# Altium footprint library CTRL Freaks Components.PcbLib: 13 footprints
Each footprint in its own frame and in the unit in brackets; x right, y up, seen from the top. Pads: shape width x height; smd on the part's side, far side on the other; paste and mask are expansions set on the pad; w line width, h text height; cw(c..) or ccw(c..) is an arc to the next point about the centre after c.
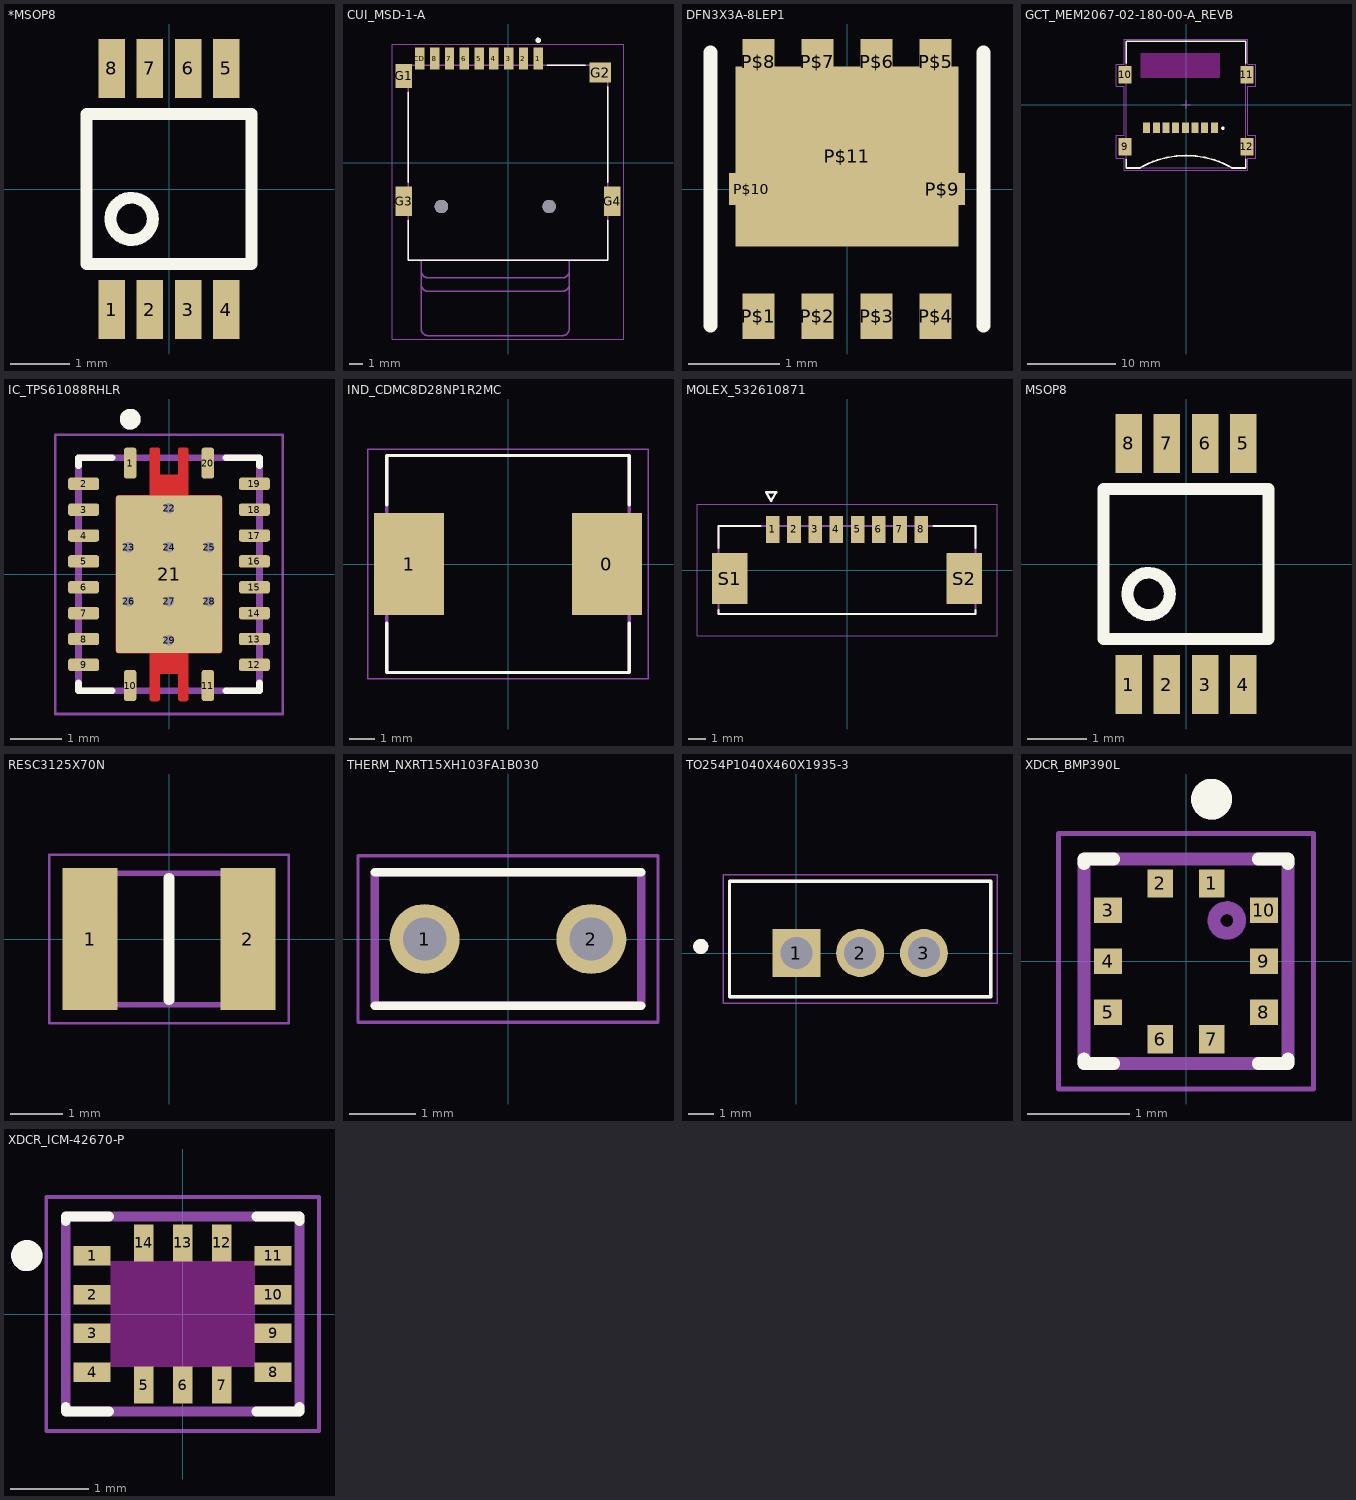
[diagram p0: the footprints below, top view; thin cyan lines are the x and y axes]

## *MSOP8 [mm]
pads (8):
  rect 0.45x1 smd: 1(-0.975,-2.05) 2(-0.325,-2.05) 3(0.325,-2.05) 4(0.975,-2.05) 5(0.975,2.05) 6(0.325,2.05) 7(-0.325,2.05) 8(-0.975,2.05)
Top Overlay:
  circle w0.203: c-0.635,-0.508 r0.359
  lines w0.203: -1.4,-1.273 -1.4,1.273 1.4,1.273 1.4,-1.273 -1.4,-1.273

## CUI_MSD-1-A [mm]
height 2
pads (15):
  rect 0.7x1.6 smd: 1(2.25,7.75) 2(1.15,7.75) 3(0.05,7.75) 4(-1.05,7.75) 5(-2.15,7.75) 6(-3.25,7.75) 7(-4.35,7.75) 8(-5.45,7.75) CD(-6.55,7.75)
  rect 1.2x1.8 smd: G1(-7.75,6.45)
  rect 1.6x1.5 smd: G2(6.85,6.7)
  rect 1.2x2.2 smd: G3(-7.75,-2.85) G4(7.75,-2.85)
  round 1 hole 1 unplated: ""(-4.95,-3.25) ""(3.05,-3.25)
Top Overlay:
  circle w0.2: c2.25,9.1 r0.1
  lines w0.127: -7.425,-4.27 -7.425,-7.25 7.425,-7.25 7.425,-4.27 ; -7.425,-1.43 -7.425,5.23 ; 2.92,7.25 5.73,7.25 ; 7.425,-1.43 7.425,5.63
Mechanical 13:
  circle w0.2: c2.25,9.1 r0.1
  lines w0.127: -6.45,-9.05 ccw(c-5.95,-9.05) -5.95,-9.55 4.05,-9.55 ccw(c4.05,-9.05) 4.55,-9.05 ; -6.45,-8.05 ccw(c-5.95,-8.05) -5.95,-8.55 4.05,-8.55 ccw(c4.05,-8.05) 4.55,-8.05 ; -6.45,-7.25 -6.45,-12.35 ccw(c-5.95,-12.35) -5.95,-12.85 4.05,-12.85 ccw(c4.05,-12.35) 4.55,-12.35 4.55,-7.25 ; -6.45,-7.25 4.55,-7.25 ; -6.45,-7.25 -7.425,-7.25 -7.425,7.25 7.425,7.25 7.425,-7.25 4.55,-7.25
Mechanical 15:
  lines w0.05: -8.6,-13.1 -8.6,8.8 8.6,8.8 8.6,-13.1 -8.6,-13.1
3D body "step_temp.STEP": height 1.8, standoff -0.6, extent -8.255,-7.493 7.895,7.557

## DFN3X3A-8LEP1 [mm]
pads (11):
  rect 0.35x0.5 smd: P$1(-0.975,-1.4) P$2(-0.325,-1.4) P$3(0.325,-1.4) P$4(0.975,-1.4) P$5(0.975,1.4) P$6(0.325,1.4) P$7(-0.325,1.4) P$8(-0.975,1.4)
  rect 0.5x0.35 smd: P$9(1.05,0) P$10(-1.05,0)
  rect 2.45x1.98 smd: P$11(0,0.36)
Top Overlay:
  lines w0.152: -1.5,-1.5 -1.5,1.5 ; 1.5,-1.5 1.5,1.5
3D body "step_temp.STEP": height 0.9, standoff 0, extent -1.55,-1.6 1.55,1.6

## GCT_MEM2067-02-180-00-A_REVB [mm]
pads (12):
  rect 0.8x1.2 smd: 1(3.225,-2.625) 2(2.125,-2.625) 3(1.025,-2.625) 4(-0.075,-2.625) 5(-1.175,-2.625) 6(-2.275,-2.625) 7(-3.375,-2.625) 8(-4.475,-2.625)
  rect 1.5x2 smd: 9(-6.945,-4.825) 10(-6.945,3.375) 11(6.945,3.375) 12(6.945,-4.825)
Top Overlay:
  circle w0.2: c4.2,-2.7 r0.1
  lines w0.2: -6.8,-6.275 -6.8,-7.225 -5.25,-7.225 ; -6.8,4.725 -6.8,7.225 6.8,7.225 6.8,4.725 ; -5.226,-7.211 cw(c0,-16.264) 5.226,-7.211 ; 5.25,-7.225 6.8,-7.225 6.8,-6.275
Keep-Out Layer:
  region: 3.85,3.028 -5.155,3.028 -5.155,5.825 3.85,5.825
Mechanical 13:
  lines w0.1: -6.8,2.77 -7.3,2.77 -7.3,3.97 -6.8,3.97 ; -0.5,0 0.5,0 ; 0,-0.5 0,0.5 ; -6.8,-5.4 -7.3,-5.4 -7.3,-4.2 -6.8,-4.2 ; -6.8,-5.4 -6.8,-4.2 ; -6.8,-5.4 -6.8,-7.225 6.8,-7.225 6.8,-5.4 ; -6.8,-4.2 -6.8,7.225 6.8,7.225 6.8,3.97 ; 6.8,-5.4 6.8,-4.2 ; 6.8,-5.4 7.3,-5.4 7.3,-4.2 6.8,-4.2 ; 6.8,-4.2 6.8,2.77 ; 6.8,2.77 6.8,3.97 ; 6.8,2.77 7.3,2.77 7.3,3.97 6.8,3.97
Mechanical 15:
  lines w0.05: -7.95,-6.096 -7.061,-6.096 -7.061,-7.468 7.061,-7.468 7.061,-6.096 7.95,-6.096 7.95,-3.505 7.061,-3.505 7.061,2.108 7.95,2.108 7.95,4.597 7.061,4.597 7.061,7.468 -7.061,7.468 -7.061,4.597 -7.95,4.597 -7.95,2.108 -7.061,2.108 -7.061,-3.505 -7.95,-3.505 -7.95,-6.096

## IC_TPS61088RHLR [mm]
pads (29):
  rrect42% 0.24x0.6 smd: 1(-0.75,2.15) 10(-0.75,-2.15) 11(0.75,-2.15) 20(0.75,2.15)
  rrect42% 0.6x0.24 smd: 2(-1.65,1.75) 3(-1.65,1.25) 4(-1.65,0.75) 5(-1.65,0.25) 6(-1.65,-0.25) 7(-1.65,-0.75) 8(-1.65,-1.25) 9(-1.65,-1.75) 12(1.65,-1.75) 13(1.65,-1.25) 14(1.65,-0.75) 15(1.65,-0.25) 16(1.65,0.25) 17(1.65,0.75) 18(1.65,1.25) 19(1.65,1.75)
  rrect5% 2.05x3.05 smd paste-3: 21(0,0)
  round 0.3 hole 0.2: 22(0,1.275) 23(-0.775,0.525) 24(0,0.525) 25(0.775,0.525) 26(-0.775,-0.525) 27(0,-0.525) 28(0.775,-0.525) 29(0,-1.275)
Top Layer:
  region: 380 vertices and 0 holes, not listed, extent -1.025,-2.45 1.025,2.45
Top Overlay:
  circle w0.2: c-0.75,3 r0.1
  lines w0.127: -1.75,-2.1 -1.75,-2.25 -1.1,-2.25 ; -1.75,2.1 -1.75,2.25 -1.1,2.25 ; 1.1,-2.25 1.75,-2.25 1.75,-2.1 ; 1.1,2.25 1.75,2.25 1.75,2.1
Top Paste:
  drawing of 8 lines, arcs and shapes, not listed
Top Solder:
  drawing of 1 lines, arcs and shapes, not listed
Mechanical 13:
  circle w0.2: c-0.75,3 r0.1
  lines w0.127: -1.75,-2.25 -1.75,2.25 1.75,2.25 1.75,-2.25 -1.75,-2.25
Mechanical 15:
  lines w0.05: -2.2,-2.7 2.2,-2.7 2.2,2.7 -2.2,2.7 -2.2,-2.7

## IND_CDMC8D28NP1R2MC [mm]
height 3
pads (2):
  rect 2.75x4 smd: 0(3.875,0) 1(-3.875,0)
Top Overlay:
  lines w0.127: -4.75,-2.315 -4.75,-4.25 4.75,-4.25 4.75,-2.315 ; -4.75,2.315 -4.75,4.25 4.75,4.25 4.75,2.315
Mechanical 13:
  lines w0.127: -4.75,-4.25 4.75,-4.25 4.75,4.25 -4.75,4.25 -4.75,-4.25
Mechanical 15:
  lines w0.05: -5.5,-4.5 5.5,-4.5 5.5,4.5 -5.5,4.5 -5.5,-4.5

## MOLEX_532610871 [mm] "Programming Footprint"
height 3.4
pads (10):
  rect 0.8x1.6 smd mask+0.076: 1(-4.375,2.4) 2(-3.125,2.4) 3(-1.875,2.4) 4(-0.625,2.4) 5(0.625,2.4) 6(1.875,2.4) 7(3.125,2.4) 8(4.375,2.4)
  rect 2.1x3 smd mask+0.076: S1(-6.925,-0.5) S2(6.925,-0.5)
Top Overlay:
  lines w0.127: -7.575,-2.35 -7.575,-2.6 7.575,-2.6 7.575,-2.35 ; -7.575,1.3 -7.575,2.6 -5.095,2.6 ; 5.095,2.6 7.575,2.6 7.575,1.3 ; -4.77,4.585 -4.17,4.585 -4.47,4.085 -4.77,4.585
Mechanical 13:
  lines w0.127: -7.575,-2.6 7.575,-2.6 7.575,2.6 -7.575,2.6 -7.575,-2.6 ; -4.77,4.585 -4.17,4.585 -4.47,4.085 -4.77,4.585
Mechanical 15:
  lines w0.05: -8.845,-3.87 8.845,-3.87 8.845,3.87 -8.845,3.87 -8.845,-3.87

## MSOP8 [mm]
pads (8):
  rect 0.45x1 smd paste+0 mask+0.102: 1(-0.975,-2.05) 2(-0.325,-2.05) 3(0.325,-2.05) 4(0.975,-2.05) 5(0.975,2.05) 6(0.325,2.05) 7(-0.325,2.05) 8(-0.975,2.05)
Top Overlay:
  circle w0.203: c-0.635,-0.508 r0.359
  lines w0.203: -1.4,-1.273 1.4,-1.273 1.4,1.273 -1.4,1.273 -1.4,-1.273
3D body "step_temp.STEP": height 1.1, standoff 0, extent -2.45,-1.55 2.45,1.55

## RESC3125X70N [mm]
pads (2):
  rect 1.05x2.7 smd: 1(-1.5,0) 2(1.5,0)
Top Overlay:
  lines w0.2: 0,-1.15 0,1.15
Mechanical 15:
  lines w0.1: -1.55,-1.25 1.55,-1.25 1.55,1.25 -1.55,1.25 -1.55,-1.25
Mechanical 20:
  lines w0.05: -2.275,-1.6 2.275,-1.6 2.275,1.6 -2.275,1.6 -2.275,-1.6

## THERM_NXRT15XH103FA1B030 [mm]
pads (2):
  round 1.05 hole 0.65: 1(-1.25,0) 2(1.25,0)
Top Overlay:
  lines w0.127: -2,-1 2,-1 ; -2,1 2,1
Mechanical 13:
  lines w0.127: -2,-1 -2,1 2,1 2,-1 -2,-1
Mechanical 15:
  lines w0.05: -2.25,-1.25 2.25,-1.25 2.25,1.25 -2.25,1.25 -2.25,-1.25
3D body "step_temp.STEP": height 7.49, standoff -23.5, extent -2,-1 2,1

## TO254P1040X460X1935-3 [mm]
pads (3):
  rect 1.91x1.91 / inner round 1.91 / far side rect 1.91x1.91 hole 1.27: 1(0,0)
  round 1.91 hole 1.27: 2(2.54,0) 3(5.08,0)
Top Overlay:
  circle w0.3: c-3.81,0.26 r0.15
  lines w0.127: -2.66,-1.74 -2.66,2.86 7.74,2.86 7.74,-1.74 -2.66,-1.74
Mechanical 13:
  circle w0.3: c-3.81,0.26 r0.15
  lines w0.127: -2.66,-1.74 7.74,-1.74 7.74,2.86 -2.66,2.86 -2.66,-1.74
Mechanical 15:
  lines w0.05: -2.91,-1.992 7.99,-1.992 7.99,3.108 -2.91,3.108 -2.91,-1.992
3D body "step_temp.STEP": height 19.68, standoff -9.22, extent -2.667,-1.778 7.533,2.722

## XDCR_BMP390L [mm]
height 0.8
pads (10):
  rect 0.25x0.275 smd: 1(0.25,0.763) 2(-0.25,0.763) 6(-0.25,-0.763) 7(0.25,-0.763)
  rect 0.275x0.25 smd: 3(-0.763,0.5) 4(-0.763,0) 5(-0.763,-0.5) 8(0.763,-0.5) 9(0.763,0) 10(0.763,0.5)
Top Overlay:
  circle w0.2: c0.25,1.587 r0.1
  lines w0.127: -1,-0.958 -1,-1 -0.707,-1 ; -1,0.958 -1,1 -0.707,1 ; 0.707,-1 1,-1 1,-0.958 ; 0.707,1 1,1 1,0.958
Mechanical 13:
  circle w0.2: c0.25,1.587 r0.1
  circle w0.127: c0.4,0.4 r0.125
  lines w0.127: -1,-1 1,-1 1,1 -1,1 -1,-1
Mechanical 15:
  lines w0.05: -1.25,-1.25 -1.25,1.25 1.25,1.25 1.25,-1.25 -1.25,-1.25
3D body "step_temp.STEP": height 0.8, standoff 0, extent -1,-1 1,1

## XDCR_ICM-42670-P [mm]
height 0.81
pads (14):
  rect 0.475x0.25 smd paste-1 mask+0.05: 1(-1.162,0.75) 2(-1.162,0.25) 3(-1.162,-0.25) 4(-1.162,-0.75) 8(1.162,-0.75) 9(1.162,-0.25) 10(1.162,0.25) 11(1.162,0.75)
  rect 0.25x0.475 smd paste-1 mask+0.05: 5(-0.5,-0.913) 6(0,-0.913) 7(0.5,-0.913) 12(0.5,0.913) 13(0,0.913) 14(-0.5,0.913)
Top Overlay:
  circle w0.2: c-2,0.75 r0.1
  lines w0.127: -1.5,-1.195 -1.5,-1.25 -0.945,-1.25 ; -1.5,1.195 -1.5,1.25 -0.945,1.25 ; 0.945,-1.25 1.5,-1.25 1.5,-1.195 ; 0.945,1.25 1.5,1.25 1.5,1.195
Top Paste:
  region: -0.937,0.131 -1.388,0.131 -1.388,0.369 -0.937,0.369
  region: -0.937,-0.369 -1.388,-0.369 -1.388,-0.131 -0.937,-0.131
  region: -0.937,-0.869 -1.388,-0.869 -1.388,-0.631 -0.937,-0.631
  region: -0.937,0.631 -1.388,0.631 -1.388,0.869 -0.937,0.869
  region: 1.388,0.131 0.937,0.131 0.937,0.369 1.388,0.369
  region: 1.388,-0.369 0.937,-0.369 0.937,-0.131 1.388,-0.131
  region: 1.388,-0.869 0.937,-0.869 0.937,-0.631 1.388,-0.631
  region: 1.388,0.631 0.937,0.631 0.937,0.869 1.388,0.869
  region: 0.119,0.687 -0.119,0.687 -0.119,1.138 0.119,1.138
  region: 0.619,0.687 0.381,0.687 0.381,1.138 0.619,1.138
  region: -0.381,0.687 -0.619,0.687 -0.619,1.138 -0.381,1.138
  region: 0.119,-1.138 -0.119,-1.138 -0.119,-0.687 0.119,-0.687
  region: 0.619,-1.138 0.381,-1.138 0.381,-0.687 0.619,-0.687
  region: -0.381,-1.138 -0.619,-1.138 -0.619,-0.687 -0.381,-0.687
Keep-Out Layer:
  region: 0.925,-0.675 -0.925,-0.675 -0.925,0.675 0.925,0.675
Mechanical 13:
  circle w0.2: c-2,0.75 r0.1
  lines w0.127: -1.5,-1.25 1.5,-1.25 1.5,1.25 -1.5,1.25 -1.5,-1.25
Mechanical 15:
  lines w0.05: -1.75,-1.5 -1.75,1.5 1.75,1.5 1.75,-1.5 -1.75,-1.5
3D body "step_temp.STEP": height 0.81, standoff 0, extent -1.5,-1.25 1.5,1.25